# Altium footprint library Module.PcbLib: 1 footprints
Each footprint in its own frame and in the unit in brackets; x right, y up, seen from the top. Pads: shape width x height; smd on the part's side, far side on the other; paste and mask are expansions set on the pad; w line width, h text height; cw(c..) or ccw(c..) is an arc to the next point about the centre after c.
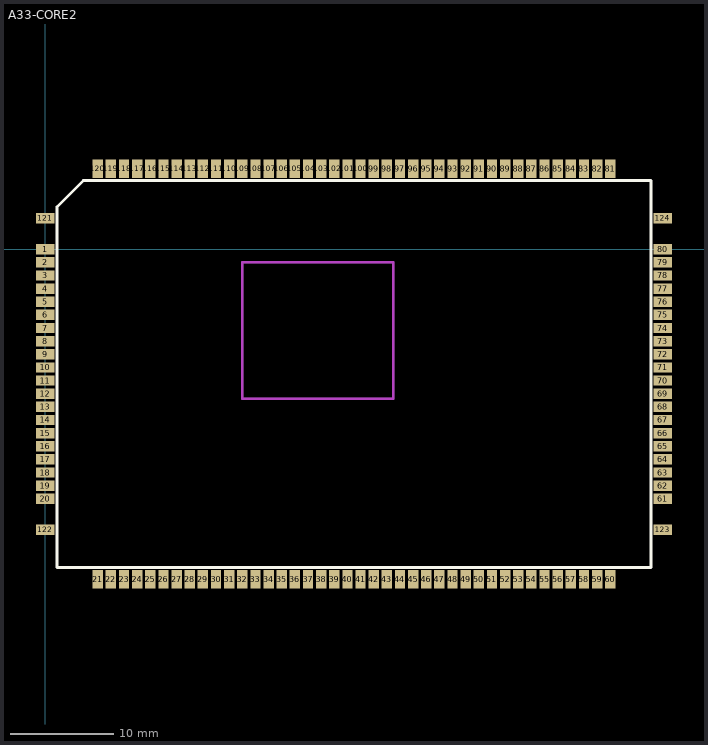
[diagram p0: the footprint, top view; thin cyan lines are the x and y axes]

## A33-CORE2 [mm]
pads (124):
  rect 1.8x1 smd: 1(0,0) 2(0,-1.27) 3(0,-2.54) 4(0,-3.81) 5(0,-5.08) 6(0,-6.35) 7(0,-7.62) 8(0,-8.89) 9(0,-10.16) 10(0,-11.43) 11(0,-12.7) 12(0,-13.97) 13(0,-15.24) 14(0,-16.51) 15(0,-17.78) 16(0,-19.05) 17(0,-20.32) 18(0,-21.59) 19(0,-22.86) 20(0,-24.13) 61(59.7,-24.13) 62(59.7,-22.86) 63(59.7,-21.59) 64(59.7,-20.32) 65(59.7,-19.05) 66(59.7,-17.78) 67(59.7,-16.51) 68(59.7,-15.24) 69(59.7,-13.97) 70(59.7,-12.7) 71(59.7,-11.43) 72(59.7,-10.16) 73(59.7,-8.89) 74(59.7,-7.62) 75(59.7,-6.35) 76(59.7,-5.08) 77(59.7,-3.81) 78(59.7,-2.54) 79(59.7,-1.27) 80(59.7,0) 121(0,3) 122(0,-27.13) 123(59.7,-27.13) 124(59.7,3)
  rect 1x1.8 smd: 21(5.085,-31.915) 22(6.355,-31.915) 23(7.625,-31.915) 24(8.895,-31.915) 25(10.165,-31.915) 26(11.435,-31.915) 27(12.705,-31.915) 28(13.975,-31.915) 29(15.245,-31.915) 30(16.515,-31.915) 31(17.785,-31.915) 32(19.055,-31.915) 33(20.325,-31.915) 34(21.595,-31.915) 35(22.865,-31.915) 36(24.135,-31.915) 37(25.405,-31.915) 38(26.675,-31.915) 39(27.945,-31.915) 40(29.215,-31.915) 41(30.485,-31.915) 42(31.755,-31.915) 43(33.025,-31.915) 44(34.295,-31.915) 45(35.565,-31.915) 46(36.835,-31.915) 47(38.105,-31.915) 48(39.375,-31.915) 49(40.645,-31.915) 50(41.915,-31.915) 51(43.185,-31.915) 52(44.455,-31.915) 53(45.725,-31.915) 54(46.995,-31.915) 55(48.265,-31.915) 56(49.535,-31.915) 57(50.805,-31.915) 58(52.075,-31.915) 59(53.345,-31.915) 60(54.615,-31.915) 81(54.615,7.785) 82(53.345,7.785) 83(52.075,7.785) 84(50.805,7.785) 85(49.535,7.785) 86(48.265,7.785) 87(46.995,7.785) 88(45.725,7.785) 89(44.455,7.785) 90(43.185,7.785) 91(41.915,7.785) 92(40.645,7.785) 93(39.375,7.785) 94(38.105,7.785) 95(36.835,7.785) 96(35.565,7.785) 97(34.295,7.785) 98(33.025,7.785) 99(31.755,7.785) 100(30.485,7.785) 101(29.215,7.785) 102(27.945,7.785) 103(26.675,7.785) 104(25.405,7.785) 105(24.135,7.785) 106(22.865,7.785) 107(21.595,7.785) 108(20.325,7.785) 109(19.055,7.785) 110(17.785,7.785) 111(16.515,7.785) 112(15.245,7.785) 113(13.975,7.785) 114(12.705,7.785) 115(11.435,7.785) 116(10.165,7.785) 117(8.895,7.785) 118(7.625,7.785) 119(6.355,7.785) 120(5.085,7.785)
Top Overlay:
  lines w0.254: 1.15,-30.765 58.55,-30.765 58.55,6.635 3.69,6.635 1.15,4.095 1.15,-30.765
Keep-Out Layer:
  lines w0.254: 19.05,-14.465 19.05,-1.265 33.65,-1.265 33.65,-14.465 19.05,-14.465
Mechanical 1:
  lines w0.254: 19.05,-14.465 19.05,-1.265 33.65,-1.265 33.65,-14.465 19.05,-14.465
3D body: height 1.5, standoff 0.1, extent -0.15,-32.065 59.54,7.935